# EAGLE library part RES8 (library xess)
Resistor 8-pack Package of eight resistors.
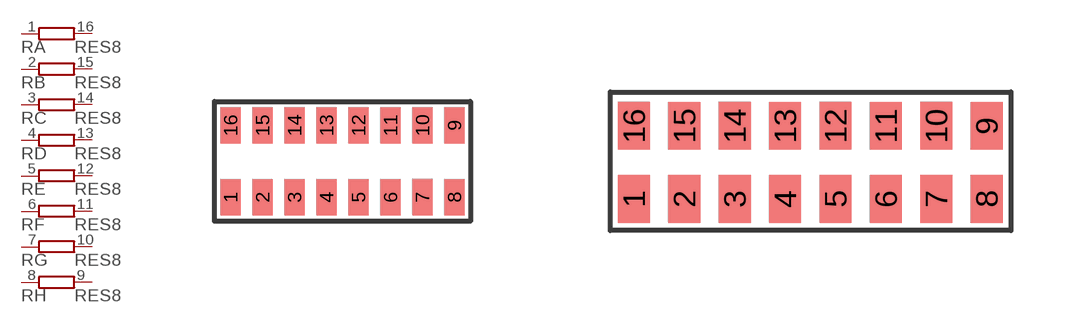
[diagram p0: symbol with the pads of 742C163; footprints 742C163, 743C163]

Designator prefix R; gates A=R1NV0 B=R1NV0 C=R1NV0 D=R1NV0 E=R1NV0 F=R1NV0 G=R1NV0 H=R1NV0

## RES8742 (DIGIKEY#: 742C163???JPCT-ND; MANF: CTS Resistor Products; MANF#: 742C163???JPTR; MOUSER#: 774-742C163???JP)  [742C163]
1  A:1  pas
2  B:1  pas
3  C:1  pas
4  D:1  pas
5  E:1  pas
6  F:1  pas
7  G:1  pas
8  H:1  pas
9  H:2  pas
10  G:2  pas
11  F:2  pas
12  E:2  pas
13  D:2  pas
14  C:2  pas
15  B:2  pas
16  A:2  pas

## RES8743  [743C163]
Pads as for 742C163

## RES8744  [744C163]
Pads as for 742C163

## RES8741X  [741X163]
Pads as for 742C163

## RES8DIP  [SOCKED-16]
Pads as for 742C163

## Footprint 742C163 (pad centres in mm)
smd 0.5 x 0.9: 1 -2.8,-0.9; 2 -2,-0.9; 3 -1.2,-0.9; 4 -0.4,-0.9; 5 0.4,-0.9; 6 1.2,-0.9; 7 2,-0.9; 8 2.8,-0.9; 9 2.8,0.9; 10 2,0.9; 11 1.2,0.9; 12 0.4,0.9; 13 -0.4,0.9; 14 -1.2,0.9; 15 -2,0.9; 16 -2.8,0.9

## Footprint 743C163 (pad centres in mm)
smd 0.8 x 1.2: 1 0,0; 2 1.27,0; 3 2.54,0; 4 3.81,0; 5 5.08,0; 6 6.35,0; 7 7.62,0; 8 8.89,0; 9 8.89,1.84; 10 7.62,1.84; 11 6.35,1.84; 12 5.08,1.84; 13 3.81,1.84; 14 2.54,1.84; 15 1.27,1.84; 16 0,1.84

## Footprint 744C163 (pad centres in mm)
smd 0.8 x 1.3: 1 -4.4,-1.5; 2 -3.13,-1.5; 3 -1.86,-1.5; 4 -0.59,-1.5; 5 0.68,-1.5; 6 1.95,-1.5; 7 3.22,-1.5; 8 4.49,-1.5; 9 4.49,1.54; 10 3.22,1.54; 11 1.95,1.54; 12 0.68,1.54; 13 -0.59,1.54; 14 -1.86,1.54; 15 -3.13,1.54; 16 -4.4,1.54

## Footprint 741X163 (pad centres in mm)
smd 0.3 x 0.8: 1 -1.75,-0.8; 2 -1.25,-0.8; 3 -0.75,-0.8; 4 -0.25,-0.8; 5 0.25,-0.8; 6 0.75,-0.8; 7 1.25,-0.8; 8 1.75,-0.8; 9 1.75,0.8; 10 1.25,0.8; 11 0.75,0.8; 12 0.25,0.8; 13 -0.25,0.8; 14 -0.75,0.8; 15 -1.25,0.8; 16 -1.75,0.8

## Footprint SOCKED-16 (pad centres in mm)
Dual In Line Socket
drill 0.813 long: 1 -8.89,-3.81; 2 -6.35,-3.81; 3 -3.81,-3.81; 4 -1.27,-3.81; 5 1.27,-3.81; 6 3.81,-3.81; 7 6.35,-3.81; 8 8.89,-3.81; 9 8.89,3.81; 10 6.35,3.81; 11 3.81,3.81; 12 1.27,3.81; 13 -1.27,3.81; 14 -3.81,3.81; 15 -6.35,3.81; 16 -8.89,3.81